# Altium schematic symbol library Res1 0.SCHLIB: 1 symbol
Pins are listed as number, name and electrical type; pins without a type are passive.

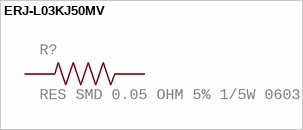
[diagram p0: symbol ERJ-L03KJ50MV]

## ERJ-L03KJ50MV
designator R?, comment RES SMD 0.05 OHM 5% 1/5W 0603
GateName_1: G$1; SymbolName_1: ERJ-L03KJ50MV; Description: 50 mOhms ±5% 0.2W, 1/5W Chip Resistor 0603 (1608 Metric) Automotive AEC-Q200, Current Sense Thick Film; MF: Panasonic; LibraryName: Res1 0.05; DeviceSetName: ERJ-L03KJ50MV; Package: RESC1608X55N; MP: ERJ-L03KJ50MV; Package: 1608-2 Panasonic; Digi-Key_Part_Number: P50NJCT-ND
footprint RESC1608X55N
pins: 1, 2